# Altium schematic symbol library DIODE SCHOTTKY 50V 500mA.Schlib: 1 symbol
Pins are listed as number, name and electrical type; pins without a type are passive.

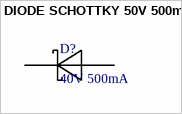
[diagram p0: symbol DIODE SCHOTTKY 50V 500mA]

## DIODE SCHOTTKY 50V 500mA
designator D?, comment 40V 500mA
DIODE SCHOTTKY SMD 40V 500mA SOD123; ComponentLink1Description: digikey; ComponentLink1URL: https://www.digikey.ca/product-detail/en/on-semiconductor/MBR0540T1G/MBR0540T1GOSCT-ND/917967; Package: SOD-123
footprint SOD-123
pins: A, C